# Altium footprint library PCB.PcbLib: 224 footprints (part 7 of 14)
Each footprint in its own frame and in the unit in brackets; x right, y up, seen from the top. Pads: shape width x height; smd on the part's side, far side on the other; paste and mask are expansions set on the pad; w line width, h text height; cw(c..) or ccw(c..) is an arc to the next point about the centre after c.
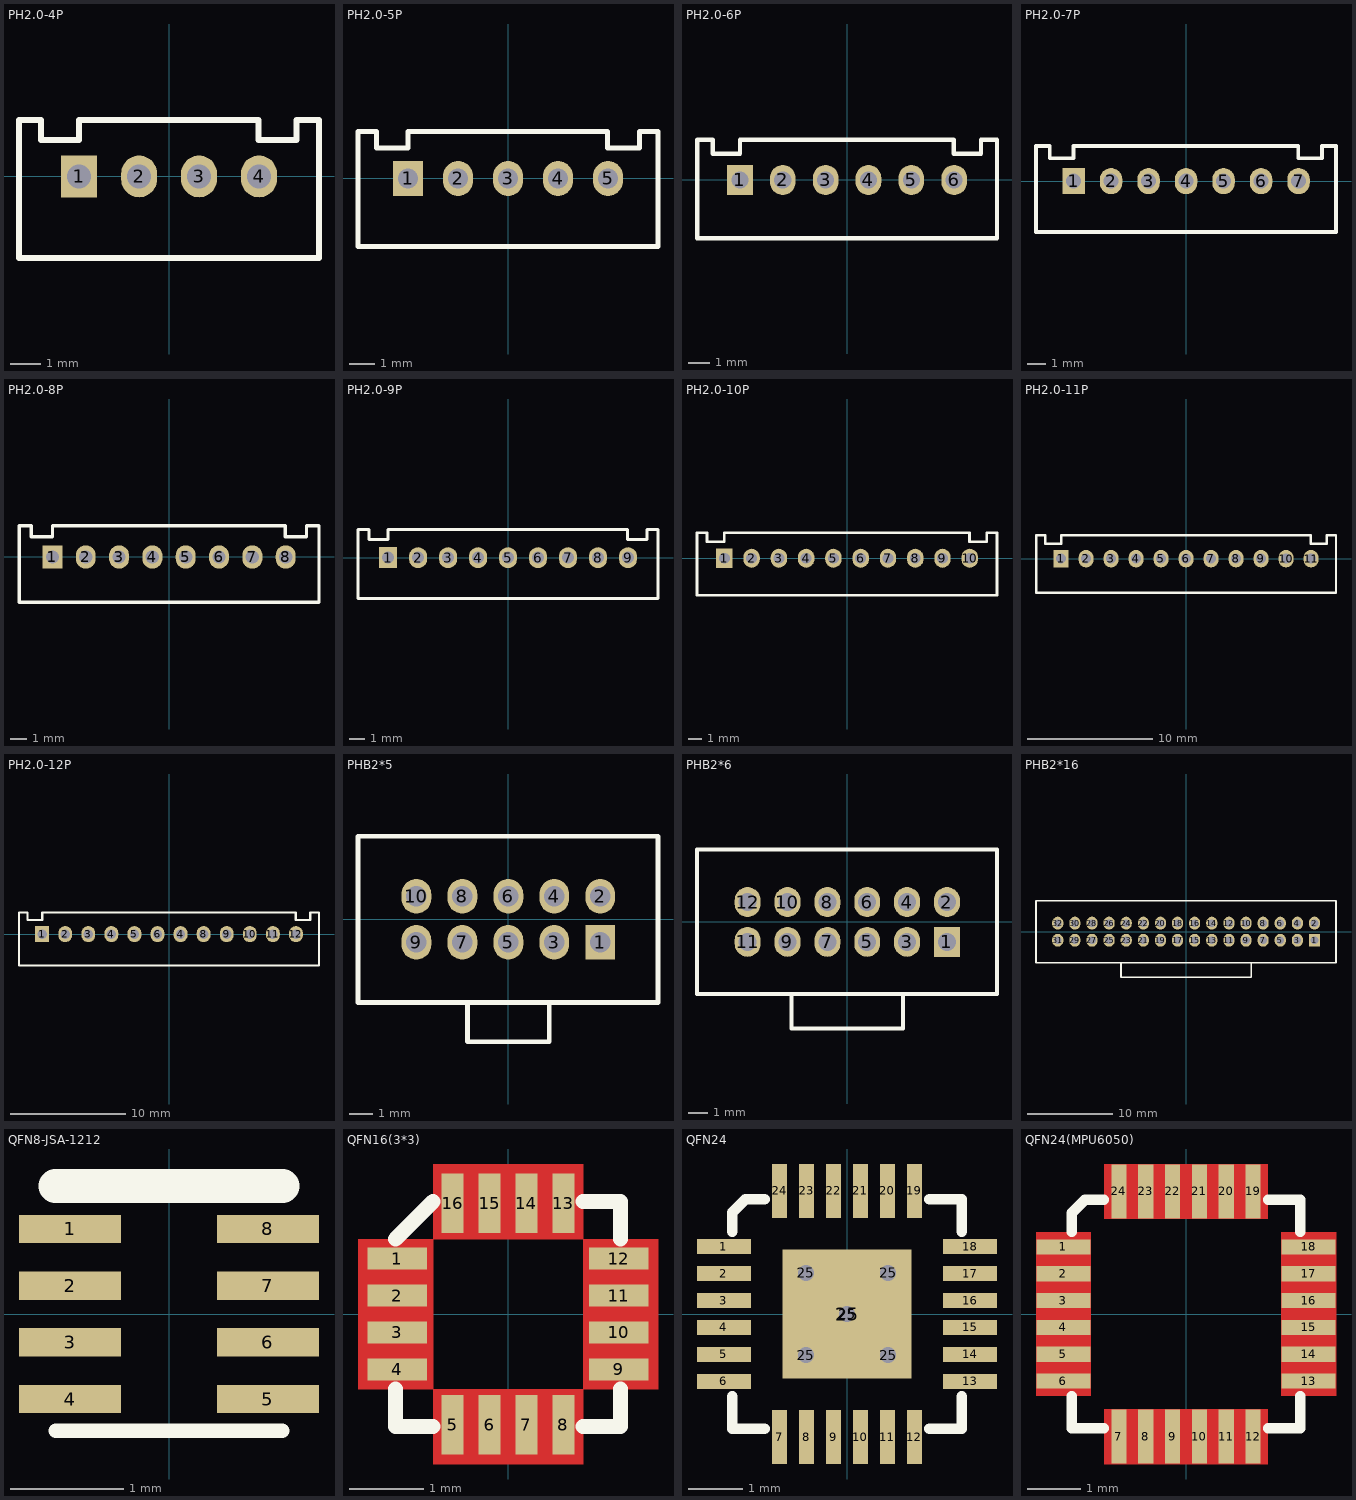
[diagram p6: the footprints below, top view; thin cyan lines are the x and y axes]

## PH2.0-4P [mm]
pads (4):
  rect 1.2x1.4 hole 0.8 unplated: 1(-3,0)
  oval 1.2x1.4 hole 0.8 unplated: 2(-1,0) 3(1,0) 4(3,0)
Top Overlay:
  lines w0.2: -5.007,-2.718 5,-2.718 ; -5,-2.72 -5,1.88 ; -4.981,1.88 -4.27,1.88 -4.27,1.219 -3,1.219 -3,1.88 ; -2.975,1.88 2.981,1.88 2.981,1.219 4.251,1.219 4.251,1.88 4.988,1.88 ; 5,-2.72 5,1.88

## PH2.0-5P [mm]
pads (5):
  rect 1.2x1.4 hole 0.8 unplated: 1(-4,0)
  oval 1.2x1.4 hole 0.8 unplated: 2(-2,0) 3(0,0) 4(2,0) 5(4,0)
Top Overlay:
  lines w0.2: -6.007,-2.718 6,-2.718 ; -6,-2.72 -6,1.88 ; -5.981,1.88 -5.27,1.88 -5.27,1.219 -4,1.219 -4,1.88 ; -3.975,1.88 3.981,1.88 3.981,1.219 5.251,1.219 5.251,1.88 5.988,1.88 ; 6,-2.72 6,1.88

## PH2.0-6P [mm]
pads (6):
  rect 1.2x1.4 hole 0.8 unplated: 1(-5,0)
  oval 1.2x1.4 hole 0.8 unplated: 2(-3,0) 3(-1,0) 4(1,0) 5(3,0) 6(5,0)
Top Overlay:
  lines w0.2: -7.007,-2.718 7,-2.718 ; -7,-2.72 -7,1.88 ; -6.981,1.88 -6.27,1.88 -6.27,1.219 -5,1.219 -5,1.88 ; -4.975,1.88 4.981,1.88 4.981,1.219 6.251,1.219 6.251,1.88 6.988,1.88 ; 7,-2.72 7,1.88

## PH2.0-7P [mm]
pads (7):
  rect 1.2x1.4 hole 0.8 unplated: 1(-6,0)
  oval 1.2x1.4 hole 0.8 unplated: 2(-4,0) 3(-2,0) 4(0,0) 5(2,0) 6(4,0) 7(6,0)
Top Overlay:
  lines w0.2: -8.007,-2.718 8,-2.718 ; -8,-2.72 -8,1.88 ; -7.981,1.88 -7.27,1.88 -7.27,1.219 -6,1.219 -6,1.88 ; -5.975,1.88 5.981,1.88 5.981,1.219 7.251,1.219 7.251,1.88 7.988,1.88 ; 8,-2.72 8,1.88

## PH2.0-8P [mm]
pads (8):
  rect 1.2x1.4 hole 0.8 unplated: 1(-7,0)
  oval 1.2x1.4 hole 0.8 unplated: 2(-5,0) 3(-3,0) 4(-1,0) 5(1,0) 6(3,0) 7(5,0) 8(7,0)
Top Overlay:
  lines w0.2: -9.007,-2.718 9,-2.718 ; -9,-2.72 -9,1.88 ; -8.981,1.88 -8.27,1.88 -8.27,1.219 -7,1.219 -7,1.88 ; -6.975,1.88 6.981,1.88 6.981,1.219 8.251,1.219 8.251,1.88 8.988,1.88 ; 9,-2.72 9,1.88

## PH2.0-9P [mm]
pads (9):
  rect 1.2x1.4 hole 0.8 unplated: 1(-8,0)
  oval 1.2x1.4 hole 0.8 unplated: 2(-6,0) 3(-4,0) 4(-2,0) 5(0,0) 6(2,0) 7(4,0) 8(6,0) 9(8,0)
Top Overlay:
  lines w0.2: -10.007,-2.718 10,-2.718 ; -10,-2.72 -10,1.88 ; -9.981,1.88 -9.27,1.88 -9.27,1.219 -8,1.219 -8,1.88 ; -7.975,1.88 7.981,1.88 7.981,1.219 9.251,1.219 9.251,1.88 9.988,1.88 ; 10,-2.72 10,1.88

## PH2.0-10P [mm]
pads (10):
  rect 1.2x1.4 hole 0.8 unplated: 1(-9,0)
  oval 1.2x1.4 hole 0.8 unplated: 2(-7,0) 3(-5,0) 4(-3,0) 5(-1,0) 6(1,0) 8(5,0) 9(7,0) 10(9,0)
  oval 1.2x1.4 hole 0.8 unplated paste+0: 7(3,0)
Top Overlay:
  lines w0.2: -11.007,-2.718 11,-2.718 ; -11,-2.72 -11,1.88 ; -10.981,1.88 -10.27,1.88 -10.27,1.219 -9,1.219 -9,1.88 ; -8.975,1.88 8.981,1.88 8.981,1.219 10.251,1.219 10.251,1.88 10.988,1.88 ; 11,-2.72 11,1.88

## PH2.0-11P [mm]
pads (11):
  rect 1.2x1.4 hole 0.8 unplated: 1(-10,0)
  oval 1.2x1.4 hole 0.8 unplated: 2(-8,0) 3(-6,0) 4(-4,0) 5(-2,0) 6(0,0) 7(2,0) 8(4,0) 9(6,0) 10(8,0) 11(10,0)
Top Overlay:
  lines w0.2: -12.007,-2.718 12,-2.718 ; -12,-2.72 -12,1.88 ; -11.981,1.88 -11.27,1.88 -11.27,1.219 -10,1.219 -10,1.88 ; -9.975,1.88 9.981,1.88 9.981,1.219 11.251,1.219 11.251,1.88 11.988,1.88 ; 12,-2.72 12,1.88

## PH2.0-12P [mm]
pads (12):
  rect 1.2x1.4 hole 0.8 unplated: 1(-11,0)
  oval 1.2x1.4 hole 0.8 unplated: 2(-9,0) 3(-7,0) 4(-5,0) 5(-3,0) 6(-1,0) 8(3,0) 9(5,0) 10(7,0) 11(9,0) 12(11,0)
  oval 1.2x1.4 hole 0.8 unplated paste+0: 4(1,0)
Top Overlay:
  lines w0.2: -13.007,-2.718 13,-2.718 ; -13,-2.72 -13,1.88 ; -12.981,1.88 -12.27,1.88 -12.27,1.219 -11,1.219 -11,1.88 ; -10.975,1.88 10.981,1.88 10.981,1.219 12.251,1.219 12.251,1.88 12.988,1.88 ; 13,-2.72 13,1.88

## PHB2*5 [mm]
pads (10):
  rect 1.3x1.5 hole 0.9: 1(4,-1)
  oval 1.3x1.5 hole 0.9: 2(4,1) 3(2,-1) 4(2,1) 5(0,-1) 6(0,1) 7(-2,-1) 8(-2,1) 9(-4,-1) 10(-4,1)
Top Overlay:
  lines w0.2: -1.778,-3.616 -1.778,-5.334 1.778,-5.334 1.778,-3.616 ; -6.54,-3.616 6.512,-3.616 6.512,3.623 -6.54,3.623 -6.54,-3.616

## PHB2*6 [mm]
pads (12):
  rect 1.3x1.5 hole 0.9: 1(5,-1)
  oval 1.3x1.5 hole 0.9: 2(5,1) 3(3,-1) 4(3,1) 5(1,-1) 6(1,1) 7(-1,-1) 8(-1,1) 9(-3,-1) 10(-3,1) 11(-5,-1) 12(-5,1)
Top Overlay:
  lines w0.2: -2.794,-3.616 -2.794,-5.334 2.794,-5.334 2.794,-3.616 ; -7.54,-3.616 7.512,-3.616 7.512,3.623 -7.54,3.623 -7.54,-3.616

## PHB2*16 [mm]
pads (32):
  rect 1.3x1.5 hole 0.9: 1(15,-1)
  oval 1.3x1.5 hole 0.9: 2(15,1) 3(13,-1) 4(13,1) 5(11,-1) 6(11,1) 7(9,-1) 8(9,1) 9(7,-1) 10(7,1) 11(5,-1) 12(5,1) 13(3,-1) 14(3,1) 15(1,-1) 16(1,1) 17(-1,-1) 18(-1,1) 19(-3,-1) 20(-3,1) 21(-5,-1) 22(-5,1) 23(-7,-1) 24(-7,1) 25(-9,-1) 26(-9,1) 27(-11,-1) 28(-11,1) 29(-13,-1) 30(-13,1) 31(-15,-1) 32(-15,1)
Top Overlay:
  lines w0.2: -7.62,-3.616 -7.62,-5.334 7.62,-5.334 7.62,-3.616 ; -17.54,-3.616 17.512,-3.616 17.512,3.623 -17.54,3.623 -17.54,-3.616

## QFN8-JSA-1212 [mm]
pads (8):
  rect 0.9x0.25 smd: 1(-0.873,0.75) 2(-0.873,0.25) 3(-0.873,-0.25) 4(-0.873,-0.75) 5(0.873,-0.75) 6(0.873,-0.25) 7(0.873,0.25) 8(0.873,0.75)
Top Overlay:
  lines w0.127: -1,-1.028 1,-1.028
  lines w0.3: -1,1.131 1,1.131

## QFN16(3*3) [mm]
pads (16):
  rect 0.8x0.3 smd: 1(-1.5,0.75) 2(-1.5,0.25) 3(-1.5,-0.25) 4(-1.5,-0.75) 9(1.5,-0.75) 10(1.5,-0.25) 11(1.5,0.25) 12(1.5,0.75)
  rect 0.3x0.8 smd: 5(-0.75,-1.5) 6(-0.25,-1.5) 7(0.25,-1.5) 8(0.75,-1.5) 13(0.75,1.5) 14(0.25,1.5) 15(-0.25,1.5) 16(-0.75,1.5)
Top Layer:
  pour cut-out: -2.032,1.016 -2.032,-1.016 -1.016,-1.016 -1.016,1.016
  pour cut-out: -1.016,1.016 1.016,1.016 1.016,2.032 -1.016,2.032
  pour cut-out: 2.032,-1.016 2.032,1.016 1.016,1.016 1.016,-1.016
  pour cut-out: 1.016,-1.016 -1.016,-1.016 -1.016,-2.032 1.016,-2.032
Top Overlay:
  lines w0.2: -1.524,-1.016 -1.524,-1.524 -1.016,-1.524 ; -1.524,1.016 -1.016,1.524 ; 1.016,-1.524 1.524,-1.524 1.524,-1.016 ; 1.016,1.524 1.524,1.524 1.524,1.016

## QFN24 [mm]
pads (30):
  rect 1x0.28 smd: 1(-2.282,1.25) 2(-2.282,0.75) 3(-2.282,0.25) 4(-2.282,-0.25) 5(-2.282,-0.75) 6(-2.282,-1.25) 13(2.282,-1.25) 14(2.282,-0.75) 15(2.282,-0.25) 16(2.282,0.25) 17(2.282,0.75) 18(2.282,1.25)
  rect 0.28x1 smd: 7(-1.25,-2.282) 8(-0.75,-2.282) 9(-0.25,-2.282) 10(0.25,-2.282) 11(0.75,-2.282) 12(1.25,-2.282) 19(1.25,2.282) 20(0.75,2.282) 21(0.25,2.282) 22(-0.25,2.282) 23(-0.75,2.282) 24(-1.25,2.282)
  round 0.4 hole 0.3: 25(-0.762,-0.762) 25(-0.762,0.762) 25(0,0) 25(0.762,-0.762) 25(0.762,0.762)
  rect 2.4x2.4 smd: 25(0,0)
Top Overlay:
  lines w0.2: -2.127,-1.53 -2.127,-2.127 -1.53,-2.127 ; -2.127,1.53 -2.127,1.882 -1.882,2.127 -1.53,2.127 ; 1.53,-2.127 2.127,-2.127 2.127,-1.53 ; 1.53,2.127 2.127,2.127 2.127,1.53

## QFN24(MPU6050) [mm]
pads (24):
  rect 1x0.28 smd: 1(-2.282,1.25) 2(-2.282,0.75) 3(-2.282,0.25) 4(-2.282,-0.25) 5(-2.282,-0.75) 6(-2.282,-1.25) 13(2.282,-1.25) 14(2.282,-0.75) 15(2.282,-0.25) 16(2.282,0.25) 17(2.282,0.75) 18(2.282,1.25)
  rect 0.28x1 smd: 7(-1.25,-2.282) 8(-0.75,-2.282) 9(-0.25,-2.282) 10(0.25,-2.282) 11(0.75,-2.282) 12(1.25,-2.282) 19(1.25,2.282) 20(0.75,2.282) 21(0.25,2.282) 22(-0.25,2.282) 23(-0.75,2.282) 24(-1.25,2.282)
Top Layer:
  pour cut-out: 1.778,-1.524 1.778,1.524 2.794,1.524 2.794,-1.524
  pour cut-out: 1.524,-2.794 -1.524,-2.794 -1.524,-1.778 1.524,-1.778
  pour cut-out: -2.794,-1.524 -2.794,1.524 -1.778,1.524 -1.778,-1.524
  pour cut-out: -1.524,2.794 1.524,2.794 1.524,1.778 -1.524,1.778
Top Overlay:
  lines w0.2: -2.127,-1.53 -2.127,-2.127 -1.53,-2.127 ; -2.127,1.53 -2.127,1.882 -1.882,2.127 -1.53,2.127 ; 1.53,-2.127 2.127,-2.127 2.127,-1.53 ; 1.53,2.127 2.127,2.127 2.127,1.53